# EAGLE library part MXA2300JV (library mxa2300jv)
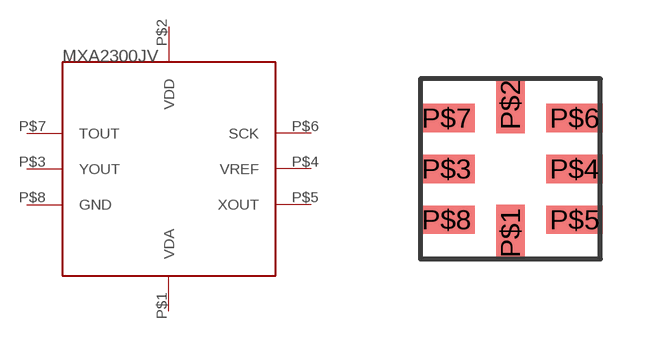
[diagram p0: symbol with the pads of MXA2300JV; footprint MXA2300JV]

Designator prefix -

## MXA2300JV  [MXA2300JV]
P$1  VDA  pwr
P$2  VDD  pwr
P$3  YOUT  out
P$4  VREF  out
P$5  XOUT  out
P$6  SCK  in
P$7  TOUT  out
P$8  GND  in

## Footprint MXA2300JV (pad centres in mm)
smd 0.711 x 1.422: P$1 0,-1.6; P$2 0,1.6
smd 1.422 x 0.711: P$3 -1.6,0; P$4 1.6,0; P$5 1.6,-1.27; P$6 1.6,1.27; P$7 -1.6,1.27; P$8 -1.6,-1.27